# Altium integrated library 4040 Inductor.IntLib: 1 symbol
Pins are listed as number, name and electrical type; pins without a type are passive.

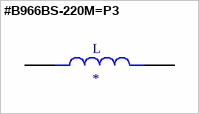
[diagram p0: symbol #B966BS-220M=P3]

## #B966BS-220M=P3
designator L
Indutor com indutÃ¢ncia: 22uH Tol. +/- 20%, Pacote: 4040 _101101_; MF: Murata; MP: #B966BS-220M=P3; Price: None; Availability: Unavailable; Package: Nonstandard Murata; SnapEDA_Link: https://www.snapeda.com/parts/%23B966BS-220M%3DP3/Murata/view-part/4549585/?ref=snap; Value: *
footprint IND_#B966BS-220M=P3
pins: 1, 2